# EAGLE library part QFN-48(52)BT-0.4-01-00 (library QFN-48(52)BT-0.4-01-00)
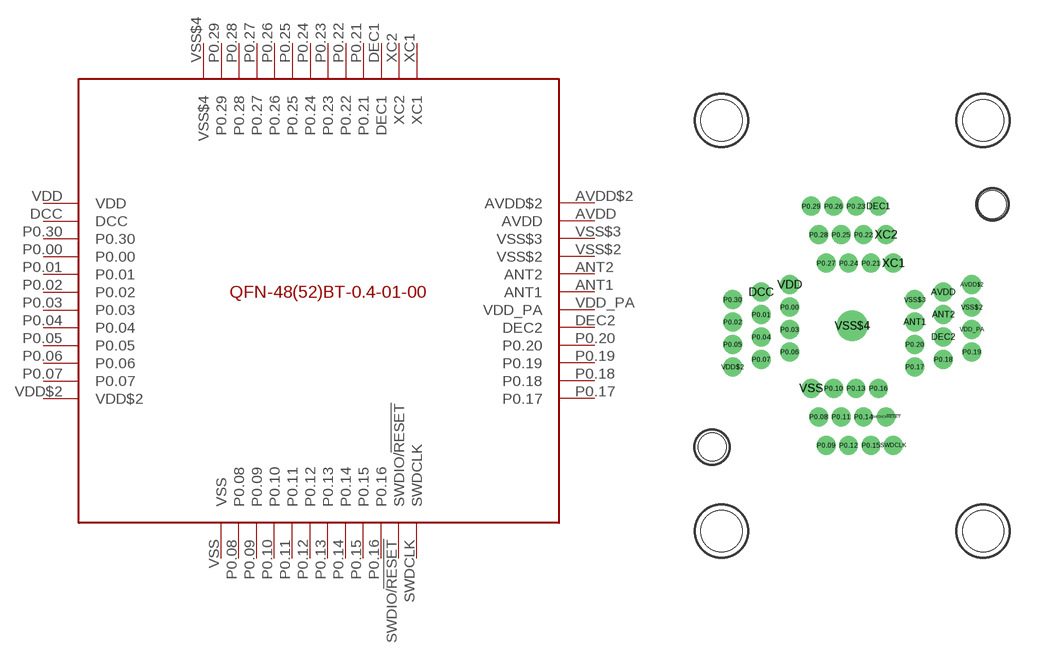
[diagram p0: symbol with the pads of QFN-48(52)BT-0.4-01-00; footprint QFN-48(52)BT-0.4-01-00]

Designator prefix U

## QFN-48(52)BT-0.4-01-00  [QFN-48(52)BT-0.4-01-00]
ANT1  ANT1
ANT2  ANT2
AVDD  AVDD
AVDD$2  AVDD$2
DCC  DCC
DEC1  DEC1
DEC2  DEC2
P0.00  P0.00
P0.01  P0.01
P0.02  P0.02
P0.03  P0.03
P0.04  P0.04
P0.05  P0.05
P0.06  P0.06
P0.07  P0.07
P0.08  P0.08
P0.09  P0.09
P0.10  P0.10
P0.11  P0.11
P0.12  P0.12
P0.13  P0.13
P0.14  P0.14
P0.15  P0.15
P0.16  P0.16
P0.17  P0.17
P0.18  P0.18
P0.19  P0.19
P0.20  P0.20
P0.21  P0.21
P0.22  P0.22
P0.23  P0.23
P0.24  P0.24
P0.25  P0.25
P0.26  P0.26
P0.27  P0.27
P0.28  P0.28
P0.29  P0.29
P0.30  P0.30
SWDCLK  SWDCLK
SWDIO/!RESET  SWDIO/!RESET
VDD  VDD
VDD$2  VDD$2
VDD_PA  VDD_PA
VSS  VSS
VSS$2  VSS$2
VSS$3  VSS$3
VSS$4  VSS$4
XC1  XC1
XC2  XC2

## Footprint QFN-48(52)BT-0.4-01-00 (pad centres in mm)
drill 0.5: ANT1 3.35,0.2; ANT2 4.875,0.6; AVDD 4.875,1.8; AVDD$2 6.4,2.2; DCC -4.875,1.8; DEC1 1.4,6.4; DEC2 4.875,-0.6; P0.00 -3.35,1; P0.01 -4.875,0.6; P0.02 -6.4,0.2; P0.03 -3.35,-0.2; P0.04 -4.875,-0.6; P0.05 -6.4,-1; P0.06 -3.35,-1.4; P0.07 -4.875,-1.8; P0.08 -1.8,-4.875; P0.09 -1.4,-6.4; P0.10 -1,-3.35; P0.11 -0.6,-4.875; P0.12 -0.2,-6.4; P0.13 0.2,-3.35; P0.14 0.6,-4.875; P0.15 1,-6.4; P0.16 1.4,-3.35; P0.17 3.35,-2.2; P0.18 4.875,-1.8; P0.19 6.4,-1.4; P0.20 3.35,-1; P0.21 1,3.35; P0.22 0.6,4.875; P0.23 0.2,6.4; P0.24 -0.2,3.35; P0.25 -0.6,4.875; P0.26 -1,6.4; P0.27 -1.4,3.35; P0.28 -1.8,4.875; P0.29 -2.2,6.4; P0.30 -6.4,1.4; SWDCLK 2.2,-6.4; SWDIO/!RESET 1.8,-4.875; VDD -3.35,2.2; VDD$2 -6.4,-2.2; VDD_PA 6.4,-0.2; VSS -2.2,-3.35; VSS$2 6.4,1; VSS$3 3.35,1.4; XC1 2.2,3.35; XC2 1.8,4.875
drill 1.1: VSS$4 0,0
hole 1.5 at -7.5,-6.5
hole 1.5 at 7.5,6.5
hole 2.2 at 7,11
hole 2.2 at -7,11
hole 2.2 at -7,-11
hole 2.2 at 7,-11